# EAGLE library part IDP_LIBRARY_*555 (library library)
TIMER Changed DIP package to have round (not oval) pin pads http://www.ladyada.net/library/pcb/eaglelibrary.html
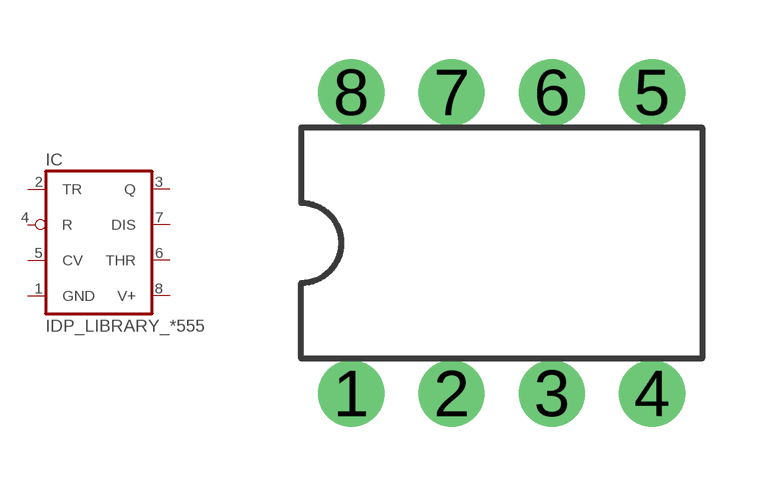
[diagram p0: symbol with the pads of IDP_LIBRARY_DIL08-ROUND; footprint IDP_LIBRARY_DIL08-ROUND]

Designator prefix IC

## IDP_LIBRARY_555N, IDP_LIBRARY_LM555N, IDP_LIBRARY_NE555N, IDP_LIBRARY_SE555N, IDP_LIBRARY_UA555N  [IDP_LIBRARY_DIL08-ROUND]
1  GND  pwr
2  TR  in
3  Q  out
4  R  in
5  CV  in
6  THR  in
7  DIS  in
8  V+  pwr

## Footprint IDP_LIBRARY_DIL08-ROUND (pad centres in mm)
Dual In Line Package
drill 0.813 pad 1.676: 1 -3.81,-3.81; 2 -1.27,-3.81; 3 1.27,-3.81; 4 3.81,-3.81; 5 3.81,3.81; 6 1.27,3.81; 7 -1.27,3.81; 8 -3.81,3.81